# Altium schematic symbol library CH201-00ABR.SchLib: 1 symbol
Pins are listed as number, name and electrical type; pins without a type are passive.

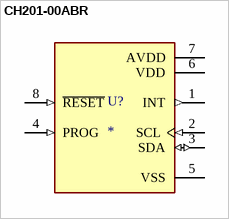
[diagram p0: symbol CH201-00ABR]

## CH201-00ABR
designator U?
LONG RANGE ULTRA-LOW POWER ULTRA; MP: CH201-00ABR; MF: InvenSense; SnapEDA_Link: https://www.snapeda.com/parts/CH201-00ABR/TDK%20InvenSense/view-part/5001659/?ref=snap; Package: None; Check_prices: https://www.snapeda.com/parts/CH201-00ABR/TDK%20InvenSense/view-part/5001659/?ref=eda; Price: None; Value: *; Availability: Warning; Purchase-URL: https://pricing.snapeda.com/search/part/CH201-00ABR/?ref=eda
footprint XDCR_CH201-00ABR
pins: 1 INT (out), 2 SCL (in), 3 SDA (io), 4 PROG (in), 5 VSS (power), 6 VDD (power), 7 AVDD (power), 8 ~{RESET} (in)